# Altium schematic symbol library JAjchel_projekt.SchLib: 2 symbols
Pins are listed as number, name and electrical type; pins without a type are passive.

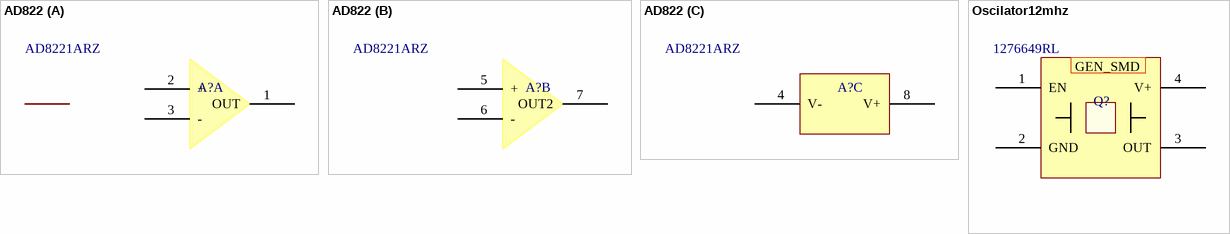
[diagram p0: symbols AD822 to Oscilator12mhz]

## AD822
designator A?  Supplier Part Number 1: AD8221ARZ  (hidden comment: *)
AD822; Supplier 1: Avnet; HelpURL: http://www.analog.com/media/en/technical-documentation/data-sheets/AD822.pdf
part A pins: 1 OUT, 2 +, 3 -
part B pins: 5 +, 6 -, 7 OUT2
part C pins: 4 V-, 8 V+

## Oscilator12mhz
designator Q?, comment Supplier Part Number 1: 1276649RL  (hidden comment: 12MHz)
Oscilator 12MHz; Supplier 1: Farnell; HelpURL: https://www.tme.eu/pl/Document/96c4d9b8a8fd6040d2a0173ba011486f/cfps-39.pdf
pins: 1 EN, 2 GND, 3 OUT, 4 V+
text: GEN_SMD; Text